# EAGLE library part FUSB302B (library m_ic-comm)
FUSB302B Programmable USB Type‐C Controller w/PD The FUSB302B targets system designers looking to implement a DRP/SRC/SNK USB Type-C connector with low amount of programmability. The FUSB302B enables the USB Type-C detection including attach, and orientation. The FUSB302B integrates the physical layer of the USB BMC power delivery protocol to allow up to 100 W of power and role swap. The BMC PD block enables full support for alternative interfaces of the Type-C specification.
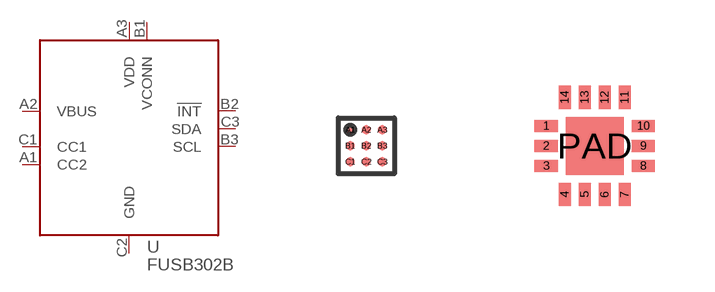
[diagram p9: symbol with the pads of WLCSP9; footprints WLCSP9, WQFN14]

Designator prefix U

## FUSB302B567TN (MANUF: ONSemi; PARTNUM: FUSB302BUCX)  [WLCSP9]
A1  CC2
A2  VBUS
A3  VDD
B1  VCONN
B2  !INT
B3  SCL
C1  CC1
C2  GND
C3  SDA

## FUSB302B510BR (MANUF: ONSemi; PARTNUM: FUSB302BMPX)  [WQFN14]
1  CC2
2  VBUS
3  VDD
4  VDD
5  !INT
6  SCL
7  SDA
8  GND
9  GND
10  CC1
11  CC1
12  VCONN
13  VCONN
14  CC2
PAD  GND

## Footprint WLCSP9 (pad centres in mm)
smd 0.23 x 0.23: A1 -0.4,0.4; A2 0,0.4; A3 0.4,0.4; B1 -0.4,0; B2 0,0; B3 0.4,0; C1 -0.4,-0.4; C2 0,-0.4; C3 0.4,-0.4

## Footprint WQFN14 (pad centres in mm)
smd 0.58 x 0.3: 1 -1.215,0.5; 2 -1.215,0; 3 -1.215,-0.5; 8 1.215,-0.5; 9 1.215,0; 10 1.215,0.5
smd 0.3 x 0.58: 4 -0.75,-1.215; 5 -0.25,-1.215; 6 0.25,-1.215; 7 0.75,-1.215; 11 0.75,1.215; 12 0.25,1.215; 13 -0.25,1.215; 14 -0.75,1.215
smd 1.45 x 1.45: PAD 0,0